# EAGLE library part TPIC6B595 (library ShiftRegister)
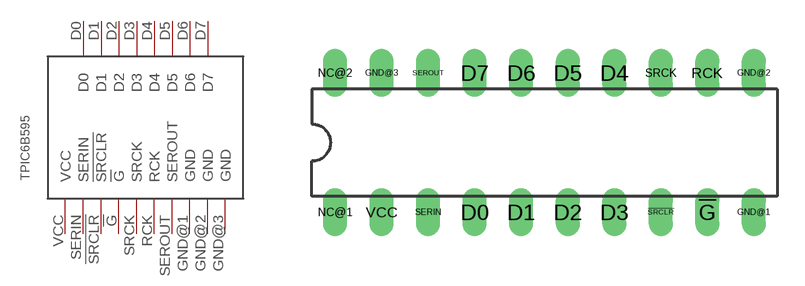
[diagram p0: symbol with the pads of DIL20; footprint DIL20]

Designator prefix -

## TPIC6B595  [DIL20]
!G  !G
!SRCLR  !SRCLR
D0  D0
D1  D1
D2  D2
D3  D3
D4  D4
D5  D5
D6  D6
D7  D7
GND@1  GND
GND@2  GND
GND@3  GND
RCK  RCK
SERIN  SERIN
SEROUT  SEROUT
SRCK  SRCK
VCC  VCC

## Footprint DIL20 (pad centres in mm)
Dual In Line Package
drill 0.813 long: !G 8.89,-3.81; !SRCLR 6.35,-3.81; D0 -3.81,-3.81; D1 -1.27,-3.81; D2 1.27,-3.81; D3 3.81,-3.81; D4 3.81,3.81; D5 1.27,3.81; D6 -1.27,3.81; D7 -3.81,3.81; GND@1 11.43,-3.81; GND@2 11.43,3.81; GND@3 -8.89,3.81; NC@1 -11.43,-3.81; NC@2 -11.43,3.81; RCK 8.89,3.81; SERIN -6.35,-3.81; SEROUT -6.35,3.81; SRCK 6.35,3.81; VCC -8.89,-3.81